# Altium schematic symbol library GD25Q32BxIGx.SchLib: 1 symbol
Pins are listed as number, name and electrical type; pins without a type are passive.

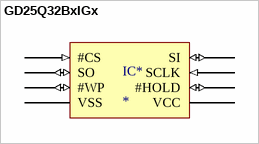
[diagram p0: symbol GD25Q32BxIGx]

## GD25Q32BxIGx
designator IC*
footprint GD25Q32BxIGx (SOP, 8-Leads, Body 5.23x5.28mm, Pitch 1.27mm, IPC Medium Density)
pins: 1 #CS (in), 2 SO (io), 3 #WP (io), 4 VSS, 5 SI (io), 6 SCLK (in), 7 #HOLD (io), 8 VCC